# Altium schematic symbol library Molex Microfit Single Row.SchLib: 3 symbols
Pins are listed as number, name and electrical type; pins without a type are passive.

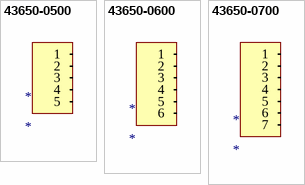
[diagram p0: symbols 43650-0500 to 43650-0700]

## 43650-0500
designator *
pins: 1, 2, 3, 4, 5

## 43650-0600
designator *
pins: 1, 2, 3, 4, 5, 6

## 43650-0700
designator *
pins: 1, 2, 3, 4, 5, 6, 7